# Altium footprint library CapacitorElectrolyticSMD.PcbLib: 1 footprints
Each footprint in its own frame and in the unit in brackets; x right, y up, seen from the top. Pads: shape width x height; smd on the part's side, far side on the other; paste and mask are expansions set on the pad; w line width, h text height; cw(c..) or ccw(c..) is an arc to the next point about the centre after c.
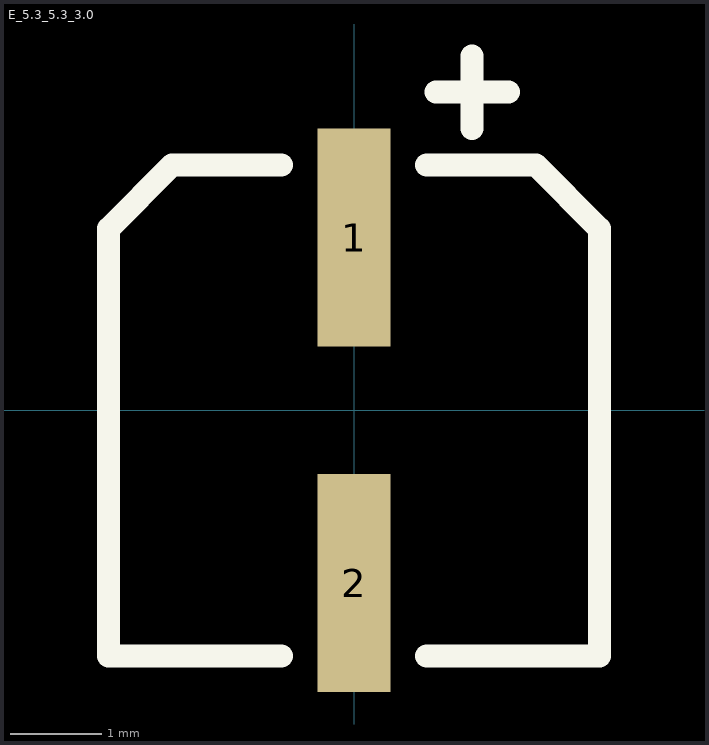
[diagram p0: the footprint, top view; thin cyan lines are the x and y axes]

## E_5.3_5.3_3.0 [mm] "Electrolitich Cap. 5.3x5.3mm"
height 3
pads (2):
  rect 0.8x2.4 smd: 1(0,1.9) 2(0,-1.9)
Top Overlay:
  lines w0.254: -0.8,-2.7 -2.7,-2.7 -2.7,2 -2,2.7 -0.8,2.7 ; 0.8,-2.7 2.7,-2.7 2.7,2 2,2.7 0.8,2.7 ; 0.9,3.5 1.7,3.5 ; 1.3,3.1 1.3,3.9
3D body: height 3, standoff 0, extent -2.48,-2.495 2.5,2.495